# Altium footprint library Generic Connector.PcbLib: 143 footprints (part 3 of 9)
Each footprint in its own frame and in the unit in brackets; x right, y up, seen from the top. Pads: shape width x height; smd on the part's side, far side on the other; paste and mask are expansions set on the pad; w line width, h text height; cw(c..) or ccw(c..) is an arc to the next point about the centre after c.
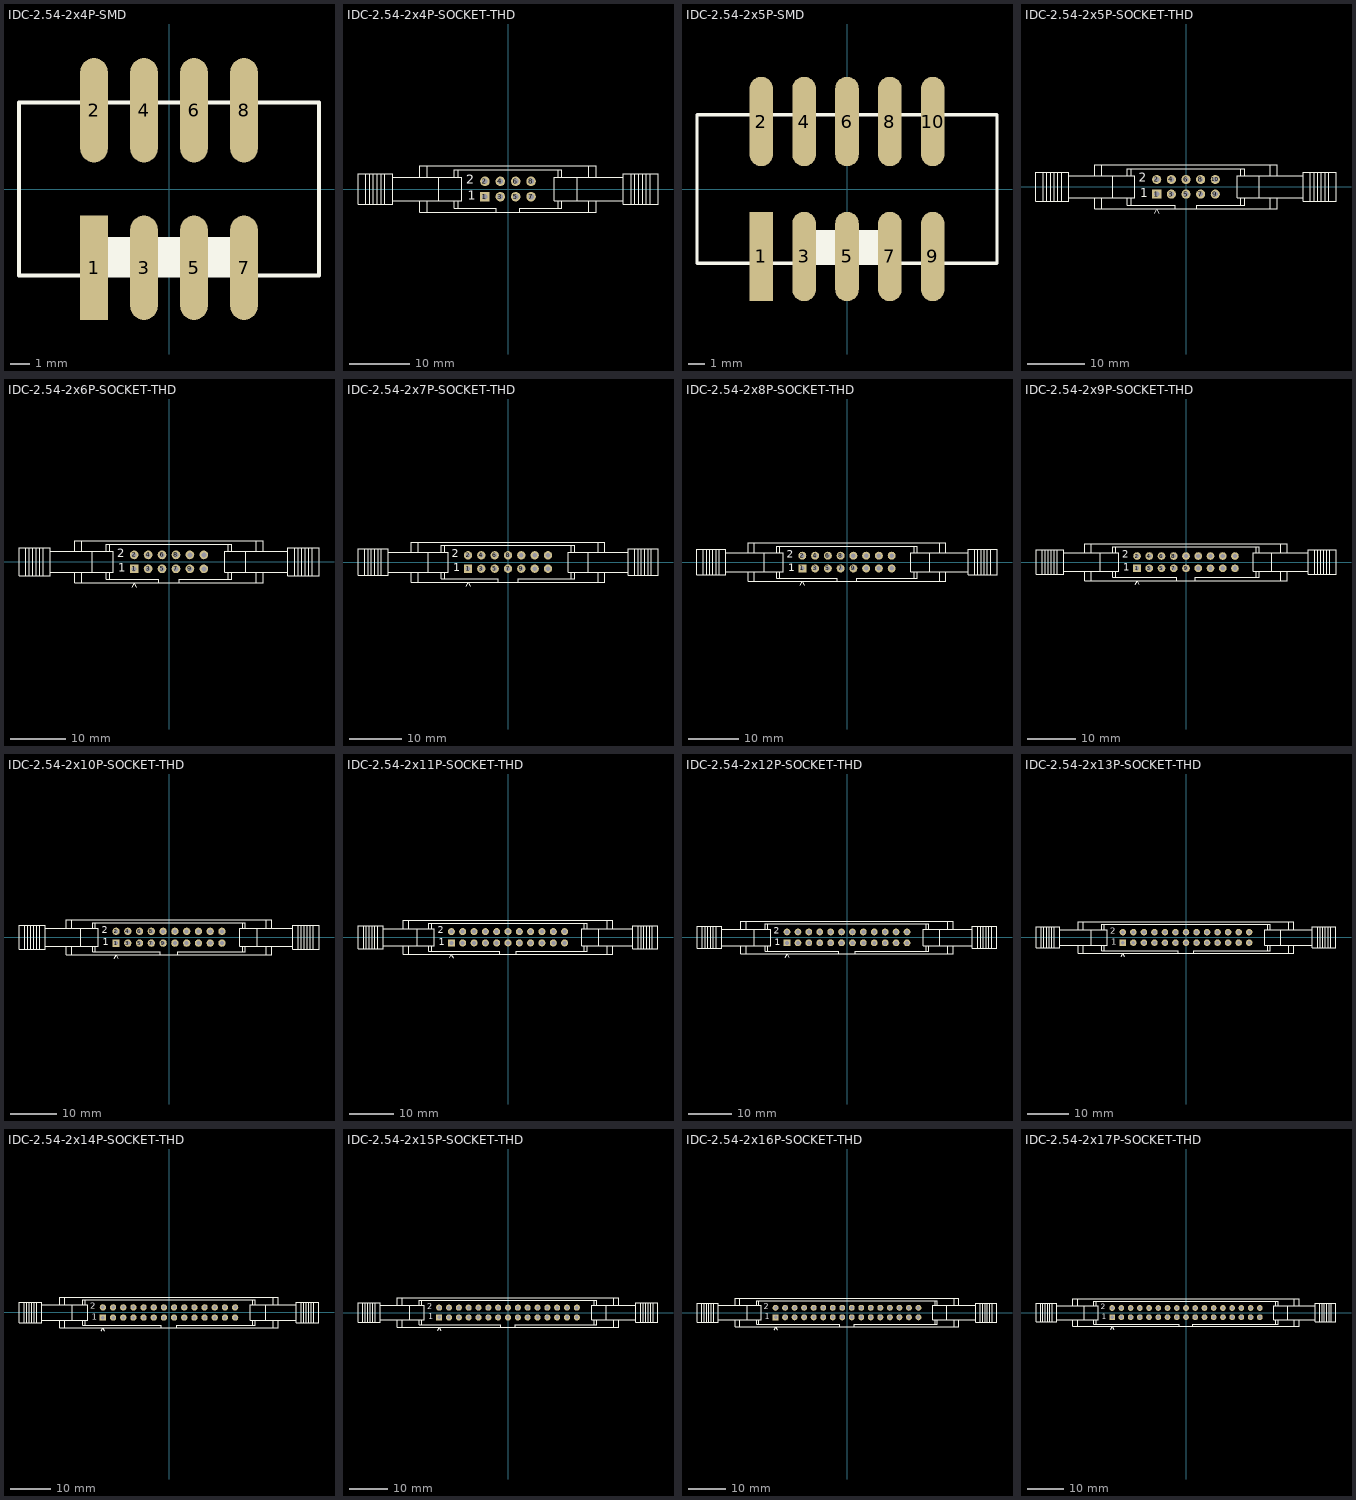
[diagram p2: the footprints below, top view; thin cyan lines are the x and y axes]

## IDC-2.54-2x4P-SMD [mm]
pads (8):
  rect 1.4x5.3 smd: 1(-3.81,-4)
  oval 1.4x5.3 smd: 2(-3.81,4) 3(-1.27,-4) 4(-1.27,4) 5(1.27,-4) 6(1.27,4) 7(3.81,-4) 8(3.81,4)
Top Overlay:
  rectangle: -3.2,-4.4 3.124,-2.438
  lines w0.2: -7.62,-4.4 -7.62,4.4 7.62,4.4 7.62,-4.4 -7.62,-4.4

## IDC-2.54-2x4P-SOCKET-THD [mil]
pads (8):
  rect 62x62 hole 35.43: 1(-150,-50)
  round 62 hole 35.43: 2(-150,50) 3(-50,-50) 4(-50,50) 5(50,-50) 6(50,50) 7(150,-50) 8(150,50)
Top Overlay:
  lines w7.87: -350,-125 -75,-125 ; 75,-125 350,-125
  lines w8: -925,-100 -925,100 ; -900,-100 -900,100 ; -875,-100 -875,100 ; -850,-100 -850,100 ; -825,-100 -825,100 ; -800,-100 -800,100 ; -750,-75 -350,-75 ; -750,75 -350,75 ; -575,-75 -575,-150 575,-150 575,-75 ; -575,75 -575,150 575,150 575,75 ; -525,-150 -525,-75 ; -525,75 -525,150 ; -450,-75 -450,75 ; -350,-125 -350,-75 ; -325,-125 -325,-75 ; -325,75 -325,125 ; -75,-150 -75,-125 ; 75,-150 75,-125 ; 325,-125 325,-75 ; 325,75 325,125 ; 350,-125 350,-75 ; 450,-75 450,75 ; 525,-150 525,-75 ; 525,75 525,150 ; 750,-75 350,-75 ; 750,75 350,75 ; 800,-100 800,100 ; 825,-100 825,100 ; 850,-100 850,100 ; 875,-100 875,100 ; 900,-100 900,100 ; 925,-100 925,100 ; -350,-75 -300,-75 -300,75 -350,75 ; -350,75 -350,125 350,125 350,75 ; 350,-75 300,-75 300,75 350,75 ; 975,-100 975,100 ; 975,-100 975,100 ; 975,-100 975,100 ; 975,-100 750,-100 750,100 975,100 ; -975,-100 -750,-100 -750,100 -975,100 -975,-100
  text "1" at -262,-70 h60
  text "2" at -272,35 h60

## IDC-2.54-2x5P-SMD [mm]
pads (10):
  rect 1.4x5.3 smd: 1(-5.08,-4)
  oval 1.4x5.3 smd: 2(-5.08,4) 3(-2.54,-4) 4(-2.54,4) 5(0,-4) 6(0,4) 7(2.54,-4) 8(2.54,4) 9(5.08,-4) 10(5.08,4)
Top Overlay:
  rectangle: -3.2,-4.4 3.124,-2.438
  lines w0.2: -8.89,-4.4 -8.89,4.4 8.89,4.4 8.89,-4.4 -8.89,-4.4

## IDC-2.54-2x5P-SOCKET-THD [mil]
pads (10):
  rect 62x62 hole 35.43: 1(-200,-50)
  round 62 hole 35.43: 2(-200,50) 3(-100,-50) 4(-100,50) 5(0,-50) 6(0,50) 7(100,-50) 8(100,50) 9(200,-50) 10(200,50)
Top Overlay:
  lines w5: -215,-180 -200,-155 -185,-180
  lines w7.87: -400,-125 -75,-125 ; 75,-125 400,-125
  lines w8: -975,-100 -975,100 ; -950,-100 -950,100 ; -925,-100 -925,100 ; -900,-100 -900,100 ; -875,-100 -875,100 ; -850,-100 -850,100 ; -800,-75 -400,-75 ; -800,75 -400,75 ; -625,-75 -625,-150 625,-150 625,-75 ; -625,75 -625,150 625,150 625,75 ; -575,-150 -575,-75 ; -575,75 -575,150 ; -500,-75 -500,75 ; -400,-125 -400,-75 ; -375,-125 -375,-75 ; -375,75 -375,125 ; -75,-150 -75,-125 ; 75,-150 75,-125 ; 375,-125 375,-75 ; 375,75 375,125 ; 400,-125 400,-75 ; 500,-75 500,75 ; 575,-150 575,-75 ; 575,75 575,150 ; 800,-75 400,-75 ; 800,75 400,75 ; 850,-100 850,100 ; 875,-100 875,100 ; 900,-100 900,100 ; 925,-100 925,100 ; 950,-100 950,100 ; 975,-100 975,100 ; -400,-75 -350,-75 -350,75 -400,75 ; -400,75 -400,125 400,125 400,75 ; 400,-75 350,-75 350,75 400,75 ; 1025,-100 1025,100 ; 1025,-100 1025,100 ; 1025,-100 1025,100 ; 1025,-100 800,-100 800,100 1025,100 ; -1025,-100 -800,-100 -800,100 -1025,100 -1025,-100
  text "1" at -312,-70 h60
  text "2" at -322,35 h60

## IDC-2.54-2x6P-SOCKET-THD [mil]
pads (12):
  rect 62x62 hole 35.43: 1(-250,-50)
  round 62 hole 35.43: 2(-250,50) 3(-150,-50) 4(-150,50) 5(-50,-50) 6(-50,50) 7(50,-50) 8(50,50) 9(150,-50) 10(150,50) 11(250,-50) 12(250,50)
Top Overlay:
  lines w5: -265,-180 -250,-155 -235,-180
  lines w7.87: -450,-125 -75,-125 ; 75,-125 450,-125
  lines w8: -1025,-100 -1025,100 ; -1000,-100 -1000,100 ; -975,-100 -975,100 ; -950,-100 -950,100 ; -925,-100 -925,100 ; -900,-100 -900,100 ; -850,-75 -450,-75 ; -850,75 -450,75 ; -675,-75 -675,-150 675,-150 675,-75 ; -675,75 -675,150 675,150 675,75 ; -625,-150 -625,-75 ; -625,75 -625,150 ; -550,-75 -550,75 ; -450,-125 -450,-75 ; -425,-125 -425,-75 ; -425,75 -425,125 ; -75,-150 -75,-125 ; 75,-150 75,-125 ; 425,-125 425,-75 ; 425,75 425,125 ; 450,-125 450,-75 ; 550,-75 550,75 ; 625,-150 625,-75 ; 625,75 625,150 ; 850,-75 450,-75 ; 850,75 450,75 ; 900,-100 900,100 ; 925,-100 925,100 ; 950,-100 950,100 ; 975,-100 975,100 ; 1000,-100 1000,100 ; 1025,-100 1025,100 ; -450,-75 -400,-75 -400,75 -450,75 ; -450,75 -450,125 450,125 450,75 ; 450,-75 400,-75 400,75 450,75 ; 1075,-100 1075,100 ; 1075,-100 1075,100 ; 1075,-100 1075,100 ; 1075,-100 850,-100 850,100 1075,100 ; -1075,-100 -850,-100 -850,100 -1075,100 -1075,-100
  text "1" at -362,-70 h60
  text "2" at -372,35 h60

## IDC-2.54-2x7P-SOCKET-THD [mil]
pads (14):
  rect 62x62 hole 35.43: 1(-300,-50)
  round 62 hole 35.43: 2(-300,50) 3(-200,-50) 4(-200,50) 5(-100,-50) 6(-100,50) 7(0,-50) 8(0,50) 9(100,-50) 10(100,50) 11(200,-50) 12(200,50) 13(300,-50) 14(300,50)
Top Overlay:
  lines w5: -315,-180 -300,-155 -285,-180
  lines w7.87: -500,-125 -75,-125 ; 75,-125 500,-125
  lines w8: -1075,-100 -1075,100 ; -1050,-100 -1050,100 ; -1025,-100 -1025,100 ; -1000,-100 -1000,100 ; -975,-100 -975,100 ; -950,-100 -950,100 ; -900,-75 -500,-75 ; -900,75 -500,75 ; -725,-75 -725,-150 725,-150 725,-75 ; -725,75 -725,150 725,150 725,75 ; -675,-150 -675,-75 ; -675,75 -675,150 ; -600,-75 -600,75 ; -500,-125 -500,-75 ; -475,-125 -475,-75 ; -475,75 -475,125 ; -75,-150 -75,-125 ; 75,-150 75,-125 ; 475,-125 475,-75 ; 475,75 475,125 ; 500,-125 500,-75 ; 600,-75 600,75 ; 675,-150 675,-75 ; 675,75 675,150 ; 900,-75 500,-75 ; 900,75 500,75 ; 950,-100 950,100 ; 975,-100 975,100 ; 1000,-100 1000,100 ; 1025,-100 1025,100 ; 1050,-100 1050,100 ; 1075,-100 1075,100 ; -500,-75 -450,-75 -450,75 -500,75 ; -500,75 -500,125 500,125 500,75 ; 500,-75 450,-75 450,75 500,75 ; 1125,-100 900,-100 900,100 1125,100 ; 1125,-100 1125,100 ; 1125,-100 1125,100 ; 1125,-100 1125,100 ; -1125,-100 -1125,100 -900,100 -900,-100 -1125,-100
  text "2" at -422,35 h60
  text "1" at -412,-70 h60

## IDC-2.54-2x8P-SOCKET-THD [mil]
pads (16):
  rect 62x62 hole 35.43: 1(-350,-50)
  round 62 hole 35.43: 2(-350,50) 3(-250,-50) 4(-250,50) 5(-150,-50) 6(-150,50) 7(-50,-50) 8(-50,50) 9(50,-50) 10(50,50) 11(150,-50) 12(150,50) 13(250,-50) 14(250,50) 15(350,-50) 16(350,50)
Top Overlay:
  lines w5: -365,-180 -350,-155 -335,-180
  lines w7.87: -550,-125 -75,-125 ; 75,-125 550,-125
  lines w8: -1125,-100 -1125,100 ; -1100,-100 -1100,100 ; -1075,-100 -1075,100 ; -1050,-100 -1050,100 ; -1025,-100 -1025,100 ; -1000,-100 -1000,100 ; -950,-75 -550,-75 ; -950,75 -550,75 ; -775,-75 -775,-150 775,-150 775,-75 ; -775,75 -775,150 775,150 775,75 ; -725,-150 -725,-75 ; -725,75 -725,150 ; -650,-75 -650,75 ; -550,-125 -550,-75 ; -525,-125 -525,-75 ; -525,75 -525,125 ; -75,-150 -75,-125 ; 75,-150 75,-125 ; 525,-125 525,-75 ; 525,75 525,125 ; 550,-125 550,-75 ; 650,-75 650,75 ; 725,-150 725,-75 ; 725,75 725,150 ; 950,-75 550,-75 ; 950,75 550,75 ; 1000,-100 1000,100 ; 1025,-100 1025,100 ; 1050,-100 1050,100 ; 1075,-100 1075,100 ; 1100,-100 1100,100 ; 1125,-100 1125,100 ; -550,-75 -500,-75 -500,75 -550,75 ; -550,75 -550,125 550,125 550,75 ; 550,-75 500,-75 500,75 550,75 ; 1175,-100 1175,100 ; 1175,-100 1175,100 ; 1175,-100 1175,100 ; 1175,-100 950,-100 950,100 1175,100 ; -1175,-100 -950,-100 -950,100 -1175,100 -1175,-100
  text "1" at -462,-70 h60
  text "2" at -472,35 h60

## IDC-2.54-2x9P-SOCKET-THD [mil]
pads (18):
  rect 62x62 hole 35.43: 1(-400,-50)
  round 62 hole 35.43: 2(-400,50) 3(-300,-50) 4(-300,50) 5(-200,-50) 6(-200,50) 7(-100,-50) 8(-100,50) 9(0,-50) 10(0,50) 11(100,-50) 12(100,50) 13(200,-50) 14(200,50) 15(300,-50) 16(300,50) 17(400,-50) 18(400,50)
Top Overlay:
  lines w5: -415,-180 -400,-155 -385,-180
  lines w7.87: -600,-125 -75,-125 ; 75,-125 600,-125
  lines w8: -1175,-100 -1175,100 ; -1150,-100 -1150,100 ; -1125,-100 -1125,100 ; -1100,-100 -1100,100 ; -1075,-100 -1075,100 ; -1050,-100 -1050,100 ; -1000,-75 -600,-75 ; -1000,75 -600,75 ; -825,-75 -825,-150 825,-150 825,-75 ; -825,75 -825,150 825,150 825,75 ; -775,-150 -775,-75 ; -775,75 -775,150 ; -700,-75 -700,75 ; -600,-125 -600,-75 ; -575,-125 -575,-75 ; -575,75 -575,125 ; -75,-150 -75,-125 ; 75,-150 75,-125 ; 575,-125 575,-75 ; 575,75 575,125 ; 600,-125 600,-75 ; 700,-75 700,75 ; 775,-150 775,-75 ; 775,75 775,150 ; 1000,-75 600,-75 ; 1000,75 600,75 ; 1050,-100 1050,100 ; 1075,-100 1075,100 ; 1100,-100 1100,100 ; 1125,-100 1125,100 ; 1150,-100 1150,100 ; 1175,-100 1175,100 ; -600,-75 -550,-75 -550,75 -600,75 ; -600,75 -600,125 600,125 600,75 ; 600,-75 550,-75 550,75 600,75 ; 1225,-100 1000,-100 1000,100 1225,100 ; 1225,-100 1225,100 ; 1225,-100 1225,100 ; 1225,-100 1225,100 ; -1225,-100 -1225,100 -1000,100 -1000,-100 -1225,-100
  text "2" at -522,35 h60
  text "1" at -512,-70 h60

## IDC-2.54-2x10P-SOCKET-THD [mil]
pads (20):
  rect 62x62 hole 35.43: 1(-450,-50)
  round 62 hole 35.43: 2(-450,50) 3(-350,-50) 4(-350,50) 5(-250,-50) 6(-250,50) 7(-150,-50) 8(-150,50) 9(-50,-50) 10(-50,50) 11(50,-50) 12(50,50) 13(150,-50) 14(150,50) 15(250,-50) 16(250,50) 17(350,-50) 18(350,50) 19(450,-50) 20(450,50)
Top Overlay:
  lines w5: -465,-180 -450,-155 -435,-180
  lines w7.87: -650,-125 -75,-125 ; 75,-125 650,-125
  lines w8: -1225,-100 -1225,100 ; -1200,-100 -1200,100 ; -1175,-100 -1175,100 ; -1150,-100 -1150,100 ; -1125,-100 -1125,100 ; -1100,-100 -1100,100 ; -1050,-75 -650,-75 ; -1050,75 -650,75 ; -875,-75 -875,-150 875,-150 875,-75 ; -875,75 -875,150 875,150 875,75 ; -825,-150 -825,-75 ; -825,75 -825,150 ; -750,-75 -750,75 ; -650,-125 -650,-75 ; -625,-125 -625,-75 ; -625,75 -625,125 ; -75,-150 -75,-125 ; 75,-150 75,-125 ; 625,-125 625,-75 ; 625,75 625,125 ; 650,-125 650,-75 ; 750,-75 750,75 ; 825,-150 825,-75 ; 825,75 825,150 ; 1050,-75 650,-75 ; 1050,75 650,75 ; 1100,-100 1100,100 ; 1125,-100 1125,100 ; 1150,-100 1150,100 ; 1175,-100 1175,100 ; 1200,-100 1200,100 ; 1225,-100 1225,100 ; -650,-75 -600,-75 -600,75 -650,75 ; -650,75 -650,125 650,125 650,75 ; 650,-75 600,-75 600,75 650,75 ; 1275,-100 1275,100 ; 1275,-100 1275,100 ; 1275,-100 1275,100 ; 1275,-100 1050,-100 1050,100 1275,100 ; -1275,-100 -1050,-100 -1050,100 -1275,100 -1275,-100
  text "1" at -562,-70 h60
  text "2" at -572,35 h60

## IDC-2.54-2x11P-SOCKET-THD [mil]
pads (22):
  rect 62x62 hole 35.43: 1(-500,-50)
  round 62 hole 35.43: 2(-500,50) 3(-400,-50) 4(-400,50) 5(-300,-50) 6(-300,50) 7(-200,-50) 8(-200,50) 9(-100,-50) 10(-100,50) 11(0,-50) 12(0,50) 13(100,-50) 14(100,50) 15(200,-50) 16(200,50) 17(300,-50) 18(300,50) 19(400,-50) 20(400,50) 21(500,-50) 22(500,50)
Top Overlay:
  lines w5: -515,-180 -500,-155 -485,-180
  lines w7.87: -700,-125 -75,-125 ; 75,-125 700,-125
  lines w8: -1275,-100 -1275,100 ; -1250,-100 -1250,100 ; -1225,-100 -1225,100 ; -1200,-100 -1200,100 ; -1175,-100 -1175,100 ; -1150,-100 -1150,100 ; -1100,-75 -700,-75 ; -1100,75 -700,75 ; -925,-75 -925,-150 925,-150 925,-75 ; -925,75 -925,150 925,150 925,75 ; -875,-150 -875,-75 ; -875,75 -875,150 ; -800,-75 -800,75 ; -700,-125 -700,-75 ; -675,-125 -675,-75 ; -675,75 -675,125 ; -75,-150 -75,-125 ; 75,-150 75,-125 ; 675,-125 675,-75 ; 675,75 675,125 ; 700,-125 700,-75 ; 800,-75 800,75 ; 875,-150 875,-75 ; 875,75 875,150 ; 1100,-75 700,-75 ; 1100,75 700,75 ; 1150,-100 1150,100 ; 1175,-100 1175,100 ; 1200,-100 1200,100 ; 1225,-100 1225,100 ; 1250,-100 1250,100 ; 1275,-100 1275,100 ; -700,-75 -650,-75 -650,75 -700,75 ; -700,75 -700,125 700,125 700,75 ; 700,-75 650,-75 650,75 700,75 ; 1325,-100 1325,100 ; 1325,-100 1325,100 ; 1325,-100 1325,100 ; 1325,-100 1100,-100 1100,100 1325,100 ; -1325,-100 -1100,-100 -1100,100 -1325,100 -1325,-100
  text "1" at -612,-70 h60
  text "2" at -622,35 h60

## IDC-2.54-2x12P-SOCKET-THD [mil]
pads (24):
  rect 62x62 hole 35.43: 1(-550,-50)
  round 62 hole 35.43: 2(-550,50) 3(-450,-50) 4(-450,50) 5(-350,-50) 6(-350,50) 7(-250,-50) 8(-250,50) 9(-150,-50) 10(-150,50) 11(-50,-50) 12(-50,50) 13(50,-50) 14(50,50) 15(150,-50) 16(150,50) 17(250,-50) 18(250,50) 19(350,-50) 20(350,50) 21(450,-50) 22(450,50) 23(550,-50) 24(550,50)
Top Overlay:
  lines w5: -565,-180 -550,-155 -535,-180
  lines w7.87: -750,-125 -75,-125 ; 75,-125 750,-125
  lines w8: -1325,-100 -1325,100 ; -1300,-100 -1300,100 ; -1275,-100 -1275,100 ; -1250,-100 -1250,100 ; -1225,-100 -1225,100 ; -1200,-100 -1200,100 ; -1150,-75 -750,-75 ; -1150,75 -750,75 ; -975,-75 -975,-150 975,-150 975,-75 ; -975,75 -975,150 975,150 975,75 ; -925,-150 -925,-75 ; -925,75 -925,150 ; -850,-75 -850,75 ; -750,-125 -750,-75 ; -725,-125 -725,-75 ; -725,75 -725,125 ; -75,-150 -75,-125 ; 75,-150 75,-125 ; 725,-125 725,-75 ; 725,75 725,125 ; 750,-125 750,-75 ; 850,-75 850,75 ; 925,-150 925,-75 ; 925,75 925,150 ; 1150,-75 750,-75 ; 1150,75 750,75 ; 1200,-100 1200,100 ; 1225,-100 1225,100 ; 1250,-100 1250,100 ; 1275,-100 1275,100 ; 1300,-100 1300,100 ; 1325,-100 1325,100 ; -750,-75 -700,-75 -700,75 -750,75 ; -750,75 -750,125 750,125 750,75 ; 750,-75 700,-75 700,75 750,75 ; 1375,-100 1150,-100 1150,100 1375,100 ; 1375,-100 1375,100 ; 1375,-100 1375,100 ; 1375,-100 1375,100 ; -1375,-100 -1375,100 -1150,100 -1150,-100 -1375,-100
  text "2" at -672,35 h60
  text "1" at -662,-70 h60

## IDC-2.54-2x13P-SOCKET-THD [mil]
pads (26):
  rect 62x62 hole 35.43: 1(-600,-50)
  round 62 hole 35.43: 2(-600,50) 3(-500,-50) 4(-500,50) 5(-400,-50) 6(-400,50) 7(-300,-50) 8(-300,50) 9(-200,-50) 10(-200,50) 11(-100,-50) 12(-100,50) 13(0,-50) 14(0,50) 15(100,-50) 16(100,50) 17(200,-50) 18(200,50) 19(300,-50) 20(300,50) 21(400,-50) 22(400,50) 23(500,-50) 24(500,50) 25(600,-50) 26(600,50)
Top Overlay:
  lines w5: -615,-180 -600,-155 -585,-180
  lines w7.87: -800,-125 -75,-125 ; 75,-125 800,-125
  lines w8: -1375,-100 -1375,100 ; -1350,-100 -1350,100 ; -1325,-100 -1325,100 ; -1300,-100 -1300,100 ; -1275,-100 -1275,100 ; -1250,-100 -1250,100 ; -1200,-75 -800,-75 ; -1200,75 -800,75 ; -1025,-75 -1025,-150 1025,-150 1025,-75 ; -1025,75 -1025,150 1025,150 1025,75 ; -975,-150 -975,-75 ; -975,75 -975,150 ; -900,-75 -900,75 ; -800,-125 -800,-75 ; -775,-125 -775,-75 ; -775,75 -775,125 ; -75,-150 -75,-125 ; 75,-150 75,-125 ; 775,-125 775,-75 ; 775,75 775,125 ; 800,-125 800,-75 ; 900,-75 900,75 ; 975,-150 975,-75 ; 975,75 975,150 ; 1200,-75 800,-75 ; 1200,75 800,75 ; 1250,-100 1250,100 ; 1275,-100 1275,100 ; 1300,-100 1300,100 ; 1325,-100 1325,100 ; 1350,-100 1350,100 ; 1375,-100 1375,100 ; -800,-75 -750,-75 -750,75 -800,75 ; -800,75 -800,125 800,125 800,75 ; 800,-75 750,-75 750,75 800,75 ; 1425,-100 1200,-100 1200,100 1425,100 ; 1425,-100 1425,100 ; 1425,-100 1425,100 ; 1425,-100 1425,100 ; -1425,-100 -1425,100 -1200,100 -1200,-100 -1425,-100
  text "2" at -722,35 h60
  text "1" at -712,-70 h60

## IDC-2.54-2x14P-SOCKET-THD [mil]
pads (28):
  rect 62x62 hole 35.43: 1(-650,-50)
  round 62 hole 35.43: 2(-650,50) 3(-550,-50) 4(-550,50) 5(-450,-50) 6(-450,50) 7(-350,-50) 8(-350,50) 9(-250,-50) 10(-250,50) 11(-150,-50) 12(-150,50) 13(-50,-50) 14(-50,50) 15(50,-50) 16(50,50) 17(150,-50) 18(150,50) 19(250,-50) 20(250,50) 21(350,-50) 22(350,50) 23(450,-50) 24(450,50) 25(550,-50) 26(550,50) 27(650,-50) 28(650,50)
Top Overlay:
  lines w5: -665,-180 -650,-155 -635,-180
  lines w7.87: -850,-125 -75,-125 ; 75,-125 850,-125
  lines w8: -1425,-100 -1425,100 ; -1400,-100 -1400,100 ; -1375,-100 -1375,100 ; -1350,-100 -1350,100 ; -1325,-100 -1325,100 ; -1300,-100 -1300,100 ; -1250,-75 -850,-75 ; -1250,75 -850,75 ; -1075,-75 -1075,-150 1075,-150 1075,-75 ; -1075,75 -1075,150 1075,150 1075,75 ; -1025,-150 -1025,-75 ; -1025,75 -1025,150 ; -950,-75 -950,75 ; -850,-125 -850,-75 ; -825,-125 -825,-75 ; -825,75 -825,125 ; -75,-150 -75,-125 ; 75,-150 75,-125 ; 825,-125 825,-75 ; 825,75 825,125 ; 850,-125 850,-75 ; 950,-75 950,75 ; 1025,-150 1025,-75 ; 1025,75 1025,150 ; 1250,-75 850,-75 ; 1250,75 850,75 ; 1300,-100 1300,100 ; 1325,-100 1325,100 ; 1350,-100 1350,100 ; 1375,-100 1375,100 ; 1400,-100 1400,100 ; 1425,-100 1425,100 ; -850,-75 -800,-75 -800,75 -850,75 ; -850,75 -850,125 850,125 850,75 ; 850,-75 800,-75 800,75 850,75 ; 1475,-100 1250,-100 1250,100 1475,100 ; 1475,-100 1475,100 ; 1475,-100 1475,100 ; 1475,-100 1475,100 ; -1475,-100 -1475,100 -1250,100 -1250,-100 -1475,-100
  text "2" at -772,35 h60
  text "1" at -762,-70 h60

## IDC-2.54-2x15P-SOCKET-THD [mil]
pads (30):
  rect 62x62 hole 35.43: 1(-700,-50)
  round 62 hole 35.43: 2(-700,50) 3(-600,-50) 4(-600,50) 5(-500,-50) 6(-500,50) 7(-400,-50) 8(-400,50) 9(-300,-50) 10(-300,50) 11(-200,-50) 12(-200,50) 13(-100,-50) 14(-100,50) 15(0,-50) 16(0,50) 17(100,-50) 18(100,50) 19(200,-50) 20(200,50) 21(300,-50) 22(300,50) 23(400,-50) 24(400,50) 25(500,-50) 26(500,50) 27(600,-50) 28(600,50) 29(700,-50) 30(700,50)
Top Overlay:
  lines w5: -715,-180 -700,-155 -685,-180
  lines w7.87: -900,-125 -75,-125 ; 75,-125 900,-125
  lines w8: -1475,-100 -1475,100 ; -1450,-100 -1450,100 ; -1425,-100 -1425,100 ; -1400,-100 -1400,100 ; -1375,-100 -1375,100 ; -1350,-100 -1350,100 ; -1300,-75 -900,-75 ; -1300,75 -900,75 ; -1125,-75 -1125,-150 1125,-150 1125,-75 ; -1125,75 -1125,150 1125,150 1125,75 ; -1075,-150 -1075,-75 ; -1075,75 -1075,150 ; -1000,-75 -1000,75 ; -900,-125 -900,-75 ; -875,-125 -875,-75 ; -875,75 -875,125 ; -75,-150 -75,-125 ; 75,-150 75,-125 ; 875,-125 875,-75 ; 875,75 875,125 ; 900,-125 900,-75 ; 1000,-75 1000,75 ; 1075,-150 1075,-75 ; 1075,75 1075,150 ; 1300,-75 900,-75 ; 1300,75 900,75 ; 1350,-100 1350,100 ; 1375,-100 1375,100 ; 1400,-100 1400,100 ; 1425,-100 1425,100 ; 1450,-100 1450,100 ; 1475,-100 1475,100 ; -900,-75 -850,-75 -850,75 -900,75 ; -900,75 -900,125 900,125 900,75 ; 900,-75 850,-75 850,75 900,75 ; 1525,-100 1525,100 ; 1525,-100 1525,100 ; 1525,-100 1525,100 ; 1525,-100 1300,-100 1300,100 1525,100 ; -1525,-100 -1300,-100 -1300,100 -1525,100 -1525,-100
  text "1" at -812,-70 h60
  text "2" at -822,35 h60

## IDC-2.54-2x16P-SOCKET-THD [mil]
pads (32):
  rect 62x62 hole 35.43: 1(-750,-50)
  round 62 hole 35.43: 2(-750,50) 3(-650,-50) 4(-650,50) 5(-550,-50) 6(-550,50) 7(-450,-50) 8(-450,50) 9(-350,-50) 10(-350,50) 11(-250,-50) 12(-250,50) 13(-150,-50) 14(-150,50) 15(-50,-50) 16(-50,50) 17(50,-50) 18(50,50) 19(150,-50) 20(150,50) 21(250,-50) 22(250,50) 23(350,-50) 24(350,50) 25(450,-50) 26(450,50) 27(550,-50) 28(550,50) 29(650,-50) 30(650,50) 31(750,-50) 32(750,50)
Top Overlay:
  lines w5: -765,-180 -750,-155 -735,-180
  lines w7.87: -950,-125 -75,-125 ; 75,-125 950,-125
  lines w8: -1525,-100 -1525,100 ; -1500,-100 -1500,100 ; -1475,-100 -1475,100 ; -1450,-100 -1450,100 ; -1425,-100 -1425,100 ; -1400,-100 -1400,100 ; -1350,-75 -950,-75 ; -1350,75 -950,75 ; -1175,-75 -1175,-150 1175,-150 1175,-75 ; -1175,75 -1175,150 1175,150 1175,75 ; -1125,-150 -1125,-75 ; -1125,75 -1125,150 ; -1050,-75 -1050,75 ; -950,-125 -950,-75 ; -925,-125 -925,-75 ; -925,75 -925,125 ; -75,-150 -75,-125 ; 75,-150 75,-125 ; 925,-125 925,-75 ; 925,75 925,125 ; 950,-125 950,-75 ; 1050,-75 1050,75 ; 1125,-150 1125,-75 ; 1125,75 1125,150 ; 1350,-75 950,-75 ; 1350,75 950,75 ; 1400,-100 1400,100 ; 1425,-100 1425,100 ; 1450,-100 1450,100 ; 1475,-100 1475,100 ; 1500,-100 1500,100 ; 1525,-100 1525,100 ; -950,-75 -900,-75 -900,75 -950,75 ; -950,75 -950,125 950,125 950,75 ; 950,-75 900,-75 900,75 950,75 ; 1575,-100 1575,100 ; 1575,-100 1575,100 ; 1575,-100 1575,100 ; 1575,-100 1350,-100 1350,100 1575,100 ; -1575,-100 -1350,-100 -1350,100 -1575,100 -1575,-100
  text "1" at -862,-70 h60
  text "2" at -872,35 h60

## IDC-2.54-2x17P-SOCKET-THD [mil]
pads (34):
  rect 62x62 hole 35.43: 1(-800,-50)
  round 62 hole 35.43: 2(-800,50) 3(-700,-50) 4(-700,50) 5(-600,-50) 6(-600,50) 7(-500,-50) 8(-500,50) 9(-400,-50) 10(-400,50) 11(-300,-50) 12(-300,50) 13(-200,-50) 14(-200,50) 15(-100,-50) 16(-100,50) 17(0,-50) 18(0,50) 19(100,-50) 20(100,50) 21(200,-50) 22(200,50) 23(300,-50) 24(300,50) 25(400,-50) 26(400,50) 27(500,-50) 28(500,50) 29(600,-50) 30(600,50) 31(700,-50) 32(700,50) 33(800,-50) 34(800,50)
Top Overlay:
  lines w5: -815,-180 -800,-155 -785,-180
  lines w7.87: -1000,-125 -75,-125 ; 75,-125 1000,-125
  lines w8: -1575,-100 -1575,100 ; -1550,-100 -1550,100 ; -1525,-100 -1525,100 ; -1500,-100 -1500,100 ; -1475,-100 -1475,100 ; -1450,-100 -1450,100 ; -1400,-75 -1000,-75 ; -1400,75 -1000,75 ; -1225,-75 -1225,-150 1225,-150 1225,-75 ; -1225,75 -1225,150 1225,150 1225,75 ; -1175,-150 -1175,-75 ; -1175,75 -1175,150 ; -1100,-75 -1100,75 ; -1000,-125 -1000,-75 ; -975,-125 -975,-75 ; -975,75 -975,125 ; -75,-150 -75,-125 ; 75,-150 75,-125 ; 975,-125 975,-75 ; 975,75 975,125 ; 1000,-125 1000,-75 ; 1100,-75 1100,75 ; 1175,-150 1175,-75 ; 1175,75 1175,150 ; 1400,-75 1000,-75 ; 1400,75 1000,75 ; 1450,-100 1450,100 ; 1475,-100 1475,100 ; 1500,-100 1500,100 ; 1525,-100 1525,100 ; 1550,-100 1550,100 ; 1575,-100 1575,100 ; -1000,-75 -950,-75 -950,75 -1000,75 ; -1000,75 -1000,125 1000,125 1000,75 ; 1000,-75 950,-75 950,75 1000,75 ; 1625,-100 1400,-100 1400,100 1625,100 ; 1625,-100 1625,100 ; 1625,-100 1625,100 ; 1625,-100 1625,100 ; -1625,-100 -1625,100 -1400,100 -1400,-100 -1625,-100
  text "2" at -922,35 h60
  text "1" at -912,-70 h60